# Altium schematic symbol library InterfaceConnectors.SchLib: 1 symbol
Pins are listed as number, name and electrical type; pins without a type are passive.

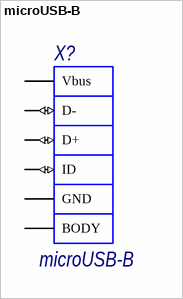
[diagram p0: symbol microUSB-B]

## microUSB-B
designator X?
microUSB type B
footprint microUSB-B (microUSB, type-B)
pins: 0 BODY, 1 Vbus (power), 2 D- (io), 3 D+ (io), 4 ID (io), 5 GND (power)